# EAGLE library part LM324NSR (library LM324NSR)
Quadruple Operational Amplifier Source: Datasheet <http://www.ti.com/lit/gpn/LM324>
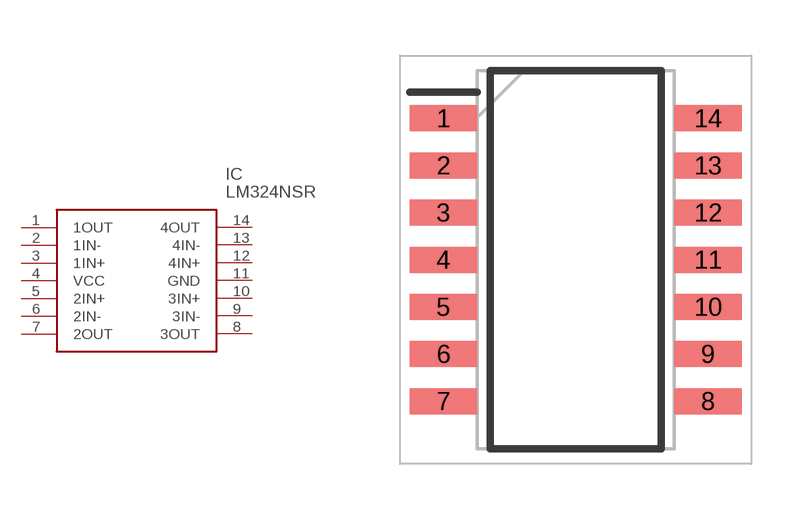
[diagram p0: symbol with the pads of SOIC127P780X200-14N; footprint SOIC127P780X200-14N]

Designator prefix IC

## LM324NSR (Arrow_Part_Number: LM324NSR; Arrow_Price-Stock: https://www.arrow.com/en/products/lm324nsr/texas-instruments?utm_currency=USD&region=nac; Description: Quadruple Operational Amplifier; Height: 2mm; Manufacturer_Name: Texas Instruments; Manufacturer_Part_Number: LM324NSR; Mouser_Part_Number: 595-LM324NSR; Mouser_Price-Stock: https://www.mouser.co.uk/ProductDetail/Texas-Instruments/LM324NSR?qs=VBduBm9rCJQcjq4eh95DkA%3D%3D)  [SOIC127P780X200-14N]
1  1OUT
2  1IN-
3  1IN+
4  VCC
5  2IN+
6  2IN-
7  2OUT
8  3OUT
9  3IN-
10  3IN+
11  GND
12  4IN+
13  4IN-
14  4OUT

## Footprint SOIC127P780X200-14N (pad centres in mm)
ns-14-ren1
smd 1.825 x 0.7: 1 -3.562,3.81; 2 -3.562,2.54; 3 -3.562,1.27; 4 -3.562,0; 5 -3.562,-1.27; 6 -3.562,-2.54; 7 -3.562,-3.81; 8 3.562,-3.81; 9 3.562,-2.54; 10 3.562,-1.27; 11 3.562,0; 12 3.562,1.27; 13 3.562,2.54; 14 3.562,3.81